# EAGLE library part H27UBG8T2A (library hosho)
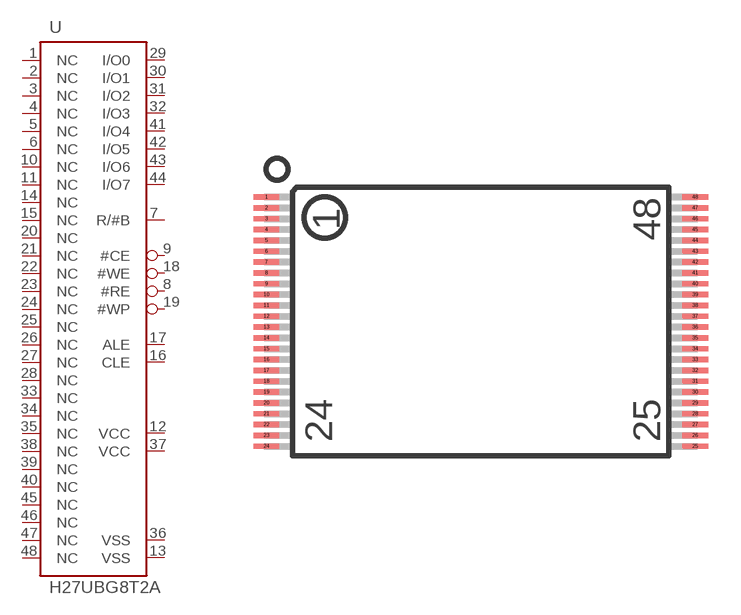
[diagram p11: symbol with the pads of TSOP48; footprint TSOP48]

Designator prefix U

## H27UBG8T2A  [TSOP48]
1  NC  nc
2  NC  nc
3  NC  nc
4  NC  nc
5  NC  nc
6  NC  nc
7  R/#B  out
8  #RE  in
9  #CE  in
10  NC  nc
11  NC  nc
12  VCC  pwr
13  VSS  pwr
14  NC  nc
15  NC  nc
16  CLE  in
17  ALE  in
18  #WE  in
19  #WP  in
20  NC  nc
21  NC  nc
22  NC  nc
23  NC  nc
24  NC  nc
25  NC  nc
26  NC  nc
27  NC  nc
28  NC  nc
29  I/O0
30  I/O1
31  I/O2
32  I/O3
33  NC  nc
34  NC  nc
35  NC  nc
36  VSS  pwr
37  VCC  pwr
38  NC  nc
39  NC  nc
40  NC  nc
41  I/O4
42  I/O5
43  I/O6
44  I/O7
45  NC  nc
46  NC  nc
47  NC  nc
48  NC  nc

## Footprint TSOP48 (pad centres in mm)
Rotated counterclockwise 270
smd 1.2 x 0.25: 1 -9.9,5.75; 2 -9.9,5.25; 3 -9.9,4.75; 4 -9.9,4.25; 5 -9.9,3.75; 6 -9.9,3.25; 7 -9.9,2.75; 8 -9.9,2.25; 9 -9.9,1.75; 10 -9.9,1.25; 11 -9.9,0.75; 12 -9.9,0.25; 13 -9.9,-0.25; 14 -9.9,-0.75; 15 -9.9,-1.25; 16 -9.9,-1.75; 17 -9.9,-2.25; 18 -9.9,-2.75; 19 -9.9,-3.25; 20 -9.9,-3.75; 21 -9.9,-4.25; 22 -9.9,-4.75; 23 -9.9,-5.25; 24 -9.9,-5.75; 25 9.9,-5.75; 26 9.9,-5.25; 27 9.9,-4.75; 28 9.9,-4.25; 29 9.9,-3.75; 30 9.9,-3.25; 31 9.9,-2.75; 32 9.9,-2.25; 33 9.9,-1.75; 34 9.9,-1.25; 35 9.9,-0.75; 36 9.9,-0.25; 37 9.9,0.25; 38 9.9,0.75; 39 9.9,1.25; 40 9.9,1.75; 41 9.9,2.25; 42 9.9,2.75; 43 9.9,3.25; 44 9.9,3.75; 45 9.9,4.25; 46 9.9,4.75; 47 9.9,5.25; 48 9.9,5.75